# EAGLE library part FPGA-EP2C_T144(CYCLONE2) (library QuantumOptics)
Altera FPGA EP2C[5|8]T144Cx, Cyclone II, EP2C5T144Cx or EP2C8T144Cx, where x is speed grade. http://www.altera.com/literature/lit-cyc2.jsp
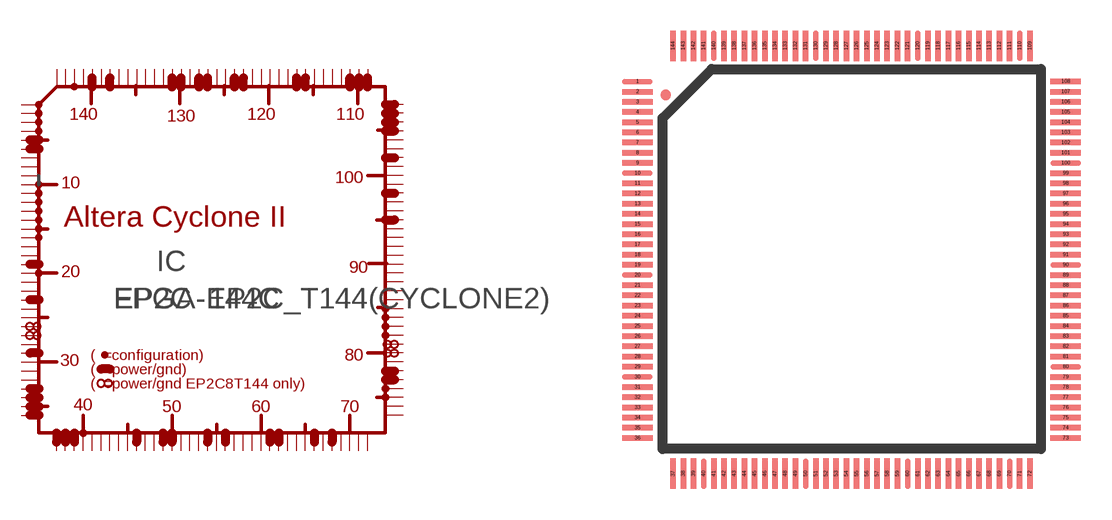
[diagram p80: symbol with the pads of TQFP144; footprint TQFP144]

Designator prefix IC

## FPGA-EP2C_T144(CYCLONE2)  [TQFP144]
1  1
2  2
3  3
4  4
5  5
6  6
7  7
8  8
9  9
10  10
11  11
12  12
13  13
14  14
15  15
16  16
17  17
18  18
19  19
20  20
21  21
22  22
23  23
24  24
25  25
26  26
27  27
28  28
29  29
30  30
31  31
32  32
33  33
34  34
35  35
36  36
37  37
38  38
39  39
40  40
41  41
42  42
43  43
44  44
45  45
46  46
47  47
48  48
49  49
50  50
51  51
52  52
53  53
54  54
55  55
56  56
57  57
58  58
59  59
60  60
61  61
62  62
63  63
64  64
65  65
66  66
67  67
68  68
69  69
70  70
71  71
72  72
73  73
74  74
75  75
76  76
77  77
78  78
79  79
80  80
81  81
82  82
83  83
84  84
85  85
86  86
87  87
88  88
89  89
90  90
91  91
92  92
93  93
94  94
95  95
96  96
97  97
98  98
99  99
100  100
101  101
102  102
103  103
104  104
105  105
106  106
107  107
108  108
109  109
110  110
111  111
112  112
113  113
114  114
115  115
116  116
117  117
118  118
119  119
120  120
121  121
122  122
123  123
124  124
125  125
126  126
127  127
128  128
129  129
130  130
131  131
132  132
133  133
134  134
135  135
136  136
137  137
138  138
139  139
140  140
141  141
142  142
143  143
144  144

## Footprint TQFP144 (pad centres in mm)
TQFP-144, from Altera. 0.5mm pin pitch. NOTICE - PCB should be laid out on a 0.5mm grid, or 0.0025" if you have to then finish routing manually. Use 0.008"max traces with 0.009"min clearances.
smd 1.5 x 0.27: 1 -10.29,8.29; 2 -10.29,7.79; 3 -10.29,7.29; 4 -10.29,6.79; 5 -10.29,6.29; 6 -10.29,5.79; 7 -10.29,5.29; 8 -10.29,4.79; 9 -10.29,4.29; 10 -10.29,3.79; 11 -10.29,3.29; 12 -10.29,2.79; 13 -10.29,2.29; 14 -10.29,1.79; 15 -10.29,1.29; 16 -10.29,0.79; 17 -10.29,0.29; 18 -10.29,-0.21; 19 -10.29,-0.71; 20 -10.29,-1.21; 21 -10.29,-1.71; 22 -10.29,-2.21; 23 -10.29,-2.71; 24 -10.29,-3.21; 25 -10.29,-3.71; 26 -10.29,-4.21; 27 -10.29,-4.71; 28 -10.29,-5.21; 29 -10.29,-5.71; 30 -10.29,-6.21; 31 -10.29,-6.71; 32 -10.29,-7.21; 33 -10.29,-7.71; 34 -10.29,-8.21; 35 -10.29,-8.71; 36 -10.29,-9.21; 73 10.71,-9.21; 74 10.71,-8.71; 75 10.71,-8.21; 76 10.71,-7.71; 77 10.71,-7.21; 78 10.71,-6.71; 79 10.71,-6.21; 80 10.71,-5.71; 81 10.71,-5.21; 82 10.71,-4.71; 83 10.71,-4.21; 84 10.71,-3.71; 85 10.71,-3.21; 86 10.71,-2.71; 87 10.71,-2.21; 88 10.71,-1.71; 89 10.71,-1.21; 90 10.71,-0.71; 91 10.71,-0.21; 92 10.71,0.29; 93 10.71,0.79; 94 10.71,1.29; 95 10.71,1.79; 96 10.71,2.29; 97 10.71,2.79; 98 10.71,3.29; 99 10.71,3.79; 100 10.71,4.29; 101 10.71,4.79; 102 10.71,5.29; 103 10.71,5.79; 104 10.71,6.29; 105 10.71,6.79; 106 10.71,7.29; 107 10.71,7.79; 108 10.71,8.29
smd 0.27 x 1.5: 37 -8.54,-10.96; 38 -8.04,-10.96; 39 -7.54,-10.96; 40 -7.04,-10.96; 41 -6.54,-10.96; 42 -6.04,-10.96; 43 -5.54,-10.96; 44 -5.04,-10.96; 45 -4.54,-10.96; 46 -4.04,-10.96; 47 -3.54,-10.96; 48 -3.04,-10.96; 49 -2.54,-10.96; 50 -2.04,-10.96; 51 -1.54,-10.96; 52 -1.04,-10.96; 53 -0.54,-10.96; 54 -0.04,-10.96; 55 0.46,-10.96; 56 0.96,-10.96; 57 1.46,-10.96; 58 1.96,-10.96; 59 2.46,-10.96; 60 2.96,-10.96; 61 3.46,-10.96; 62 3.96,-10.96; 63 4.46,-10.96; 64 4.96,-10.96; 65 5.46,-10.96; 66 5.96,-10.96; 67 6.46,-10.96; 68 6.96,-10.96; 69 7.46,-10.96; 70 7.96,-10.96; 71 8.46,-10.96; 72 8.96,-10.96; 109 8.96,10.04; 110 8.46,10.04; 111 7.96,10.04; 112 7.46,10.04; 113 6.96,10.04; 114 6.46,10.04; 115 5.96,10.04; 116 5.46,10.04; 117 4.96,10.04; 118 4.46,10.04; 119 3.96,10.04; 120 3.46,10.04; 121 2.96,10.04; 122 2.46,10.04; 123 1.96,10.04; 124 1.46,10.04; 125 0.96,10.04; 126 0.46,10.04; 127 -0.04,10.04; 128 -0.54,10.04; 129 -1.04,10.04; 130 -1.54,10.04; 131 -2.04,10.04; 132 -2.54,10.04; 133 -3.04,10.04; 134 -3.54,10.04; 135 -4.04,10.04; 136 -4.54,10.04; 137 -5.04,10.04; 138 -5.54,10.04; 139 -6.04,10.04; 140 -6.54,10.04; 141 -7.04,10.04; 142 -7.54,10.04; 143 -8.04,10.04; 144 -8.54,10.04